# Altium schematic symbol library Relay Aram.SCHLIB: 7 symbols
Pins are listed as number, name and electrical type; pins without a type are passive.

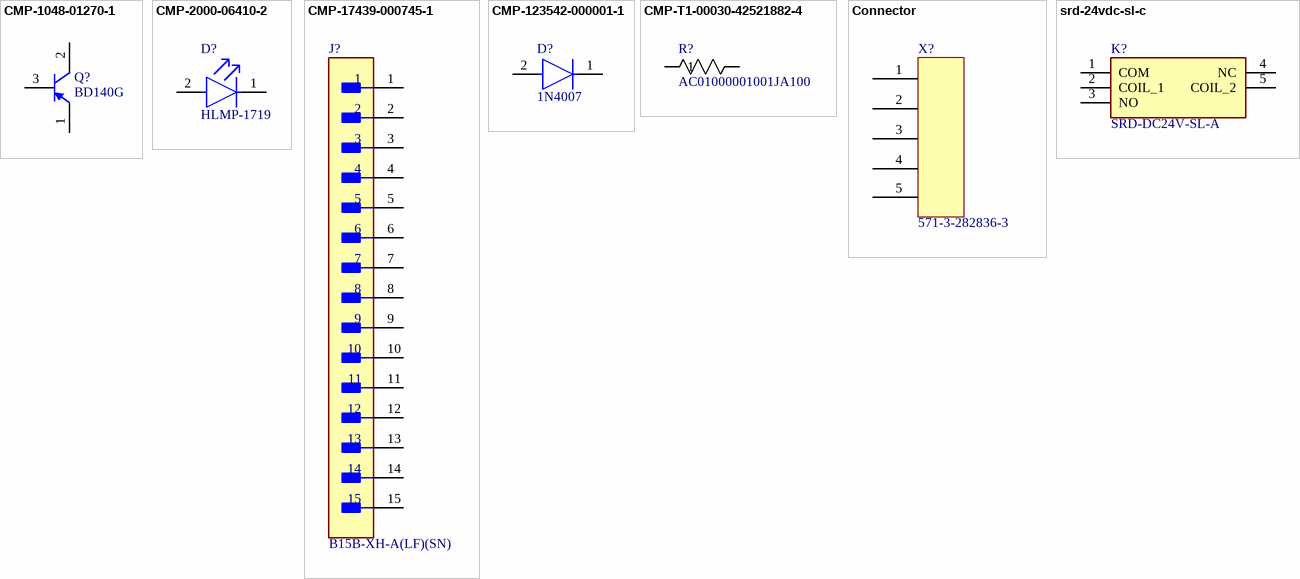
[diagram p0: symbols CMP-1048-01270-1 to srd-24vdc-sl-c]

## CMP-1048-01270-1
designator Q?, comment BD140G
Plastic Medium-Power Silicon PNP Transistor, 3-Pin TO-225, Pb-Free, Bulk Box; Manufacturer: On Semiconductor; IC Continuous (A): 1.5; PartNumber: BD140G; PackageVersion: Rev. AC, 12/2013; ComponentLink1URL: http://www.onsemi.com/; Packing: Bulk Box; ComponentLink1Description: Manufacturer URL; ComponentLink2URL: http://www.onsemi.com/pub_link/Collateral/BD136-D.PDF; ComponentLink3Description: Package Specification; Polarity: PNP; PackageReference: TO-225-3-77-09; ComponentLink3URL: http://www.onsemi.com/pub_link/Collateral/77-09.PDF; Mounting Technology: Through Hole; PackageDescription: 3-Pin Flange Mount, Vertical Straight Lead, Body 7.6 x 2.7 mm, Pitch 2.29 mm; DatasheetVersion: Rev. 15; RoHS: TRUE; ComponentLink2Description: Datasheet; Manufacturer: ON Semiconductor; Manufacturer Part Number: BD140G
footprint ONSC-TO-225-3-77-09 (FM, 3-Leads, Body 7.8x3mm, Pitch 2.29mm)
pins: 1 E, 2 C, 3 B

## CMP-2000-06410-2
designator D?, comment HLMP-1719
LED YELLOW DIFFUSED T-1 T/H; Manufacturer: Broadcom; Manufacturer: Broadcom Avago; Wavelength: 585nm; Led Orientation: Straight; Luminous Intensity: 2.1mcd; Forward Voltage: 1.8V; Viewing Angle: 50°; Description: LED Uni-Color Yellow 2-Pin T-1; Reverse Voltage: 5V; Power Dissipation: 17.5mW; Forward Current: 2mA; Lead Free: Yes; Automotive: No; Device Class L1: Optoelectronics; Mouser Description: Standard LEDs - Through Hole Yellow Diffused 585nm 2.1mcd; Digikey Description: LED YELLOW DIFFUSED T-1 T/H; Temperature: -40°C to +100°C; Temperature Range High: +100°C; Package: 0; Category: Diode; Colour: Yellow; Device Class L2: LEDs; ComponentLink2Description: Datasheet; ComponentLink2URL: https://docs.broadcom.com/docs/AV02-1557EN; Temperature Range Low: -40°C; Device Class L3: unset; Octopart: https://octopart.com/hlmp-1719-broadcom-71130405; RoHS: TRUE; Manufacturer Part Number: HLMP-1719
footprint FP-HLMP-1719-MFG
pins: 1 C, 2 A

## CMP-17439-000745-1
designator J?, comment B15B-XH-A(LF)(SN)
CONN HEADER VERT 15POS 2.5MM; Manufacturer: JST; Connector Type: Male Pin; Pitch: 0.098inch; Number of Positions: 15; Contact Type: Male Pin; Color: Natural; Number of Rows: 1; Fastening Type: Detent; Lead Free: Lead Free; Mount: Through Hole; Contact Plating: Tin; Series: XH; Termination: Press-Fit; Packaging: Bulk; Manufacturer Part Number: B15B-XH-A(LF)(SN)
footprint FP-B15B-XH-A_LF_SN-MFG
pins: 1, 2, 3, 4, 5, 6, 7, 8, 9, 10, 11, 12, 13, 14, 15

## CMP-123542-000001-1
designator D?, comment 1N4007
Rectifier diode 1000 V 1 A DO-41, ,; Manufacturer: Diotec; Max Surge Forward Current: 27A; Forward Current: 1A; Max Junction Temp: +175°C; Reverse Voltage: 1000V; Value: 15pF; Peak Reverse Current: 5uA; Category: Diode; Temperature Range Low: -50°C; Automotive: No; Temperature: -50°C to +175°C; Lead Free: Yes; ComponentLink2Description: Datasheet; Max Repetitive Reverse Voltage: 1000V; ComponentLink2URL: https://datasheet.octopart.com/1N4007-Diotec-datasheet-62346875.pdf; Manufacturer Part Number: 1N4007; Device Class L3: Rectifier Diodes; Height: 2.8mm; Octopart: https://octopart.com/1n4007-diotec-4040411; Package: 1N4007; Temperature Range High: +175°C; Device Class L1: Discrete Semiconductors; Device Class L2: Diodes; RoHS: TRUE; Capacitance: 15pF; Ipc Land Pattern Name: DIOAD888W100L520D280
footprint FP-1N4007-MFG
pins: 1 C, 2 A

## CMP-T1-00030-42521882-4
designator R?, comment AC01000001001JA100
VISHAY AC01000001001JA100 Through Hole Resistor, 1 kohm, Axial Leaded, 1 W, 5%, AC Series; NexarPartId: 42521882; Lead Diameter: 800µm; Power Rating: 1W; Temperature Coefficient: 180ppm/°C; Voltage Rating (DC): 32V; Resistance: 1kΩ; Lead Free: Lead Free; Features: Flame Retardant Coating; RoHS: Compliant; Radiation Hardening: No; Packaging: Tape & Box (TB); Length: 11mm; Min Operating Temperature: -40°C; Military Standard: Not; Case/Package: Axial; Number of Pins: 2; Diameter: 4.3mm; Tolerance: 5%; Contact Plating: Tin; Number of Terminations: 2; REACH SVHC: Unknown; Termination: Axial; Composition: Wirewound; Max Power Dissipation: 1W; Max Operating Temperature: 275°C; Schedule B: 8533210080, 8533210080; Manufacturer: Vishay; Manufacturer Part Number: AC01000001001JA100
footprint RES_AC01_VIS (VISHAY AC01000001000JA100 Through Hole Resistor, 100 ohm, Axial Leaded, 1 W, 5%, AC Series)
pins: 1, 2

## Connector
designator X?, comment 571-3-282836-3
footprint PCBComponent_1
pins: 1, 2, 3, 4, 5

## srd-24vdc-sl-c
designator K?, comment SRD-DC24V-SL-A
Relay or Contactor; Manufacturer_Name: EAGLE; Manufacturer_Part_Number: srd-24vdc-sl-c; Datasheet Link: https://pdf1.alldatasheet.com/datasheet-pdf/view/1132032/SONGLERELAY/SRD-24VDC-SL-C.html; Height: 15.3mm
footprint srd24vdcslc
pins: 1 COM, 2 COIL_1, 3 NO, 4 NC, 5 COIL_2